# Altium schematic symbol library IPZ40N04S5L-7R4.SchLib: 1 symbol
Pins are listed as number, name and electrical type; pins without a type are passive.

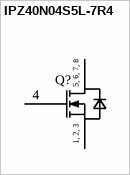
[diagram p0: symbol IPZ40N04S5L-7R4]

## IPZ40N04S5L-7R4
designator Q?  (value not drawn)
Insulated-Gate Field-Effect Transistor (IGFET), N-Channel, Enhancement, Body Diode, Pin 1 Source, 2 Source, 3 Source, 4 Gate, 5 Drain, 6 Drain, 7 Drain, 8 Drain, 8 Pins; Manufacturer: Infineon Technologies; PackageReference: PG-TSDSON-8-32; ManufacturerPartNumber: IPZ40N04S5L-7R4
footprint INF-PG-TSDSON-8-32-1-V (TSDSON 8, 0.65mm pitch; 8 pin,3.3mm W X 3.3mm L X 1.15 mm H body)
pins: 1 SOURCE, 2 SOURCE, 3 SOURCE, 4 GATE, 5 DRAIN, 6 DRAIN, 7 DRAIN, 8 DRAIN
text: 5, 6, 7, 8; 1, 2, 3